# Altium footprint library CONAN-25_F.PcbLib: 1 footprints
Each footprint in its own frame and in the unit in brackets; x right, y up, seen from the top. Pads: shape width x height; smd on the part's side, far side on the other; paste and mask are expansions set on the pad; w line width, h text height; cw(c..) or ccw(c..) is an arc to the next point about the centre after c.
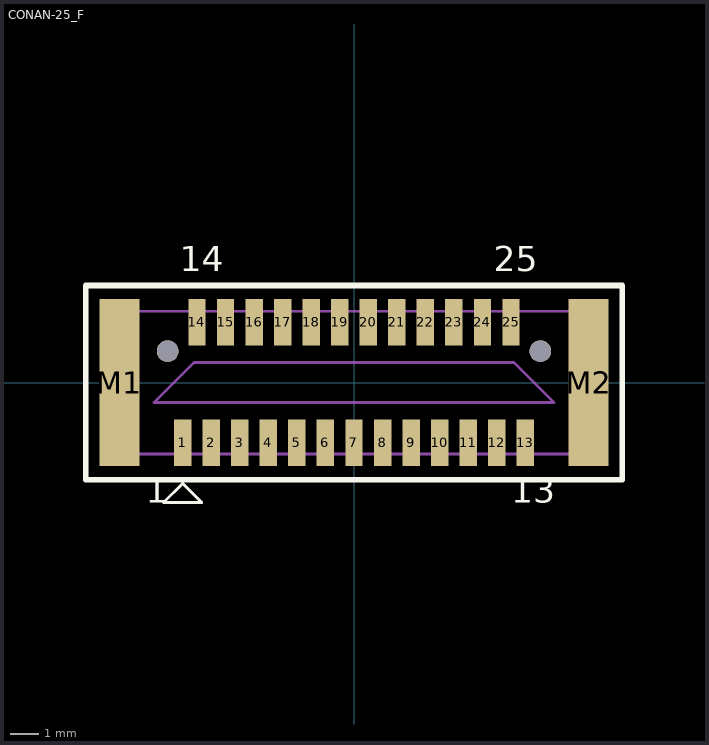
[diagram p0: the footprint, top view; thin cyan lines are the x and y axes]

## CONAN-25_F [mm]
height 3.2
pads (29):
  rect 0.61x1.63 smd: 1(-6,-2.11) 2(-5,-2.11) 3(-4,-2.11) 4(-3,-2.11) 5(-2,-2.11) 6(-1,-2.11) 7(0,-2.11) 8(1,-2.11) 9(2,-2.11) 10(3,-2.11) 11(4,-2.11) 12(5,-2.11) 13(6,-2.11) 14(-5.5,2.11) 15(-4.5,2.11) 16(-3.5,2.11) 17(-2.5,2.11) 18(-1.5,2.11) 19(-0.5,2.11) 20(0.5,2.11) 21(1.5,2.11) 22(2.5,2.11) 23(3.5,2.11) 24(4.5,2.11) 25(5.5,2.11)
  rect 1.4x5.85 smd: M1(-8.22,0) M2(8.22,0)
  round 0.76 hole 0.762 unplated: ""(-6.528,1.1) ""(6.528,1.1)
Top Overlay:
  lines w0.1: -6.67,-4.2 -5.33,-4.2 -6,-3.53 -6.67,-4.2
  lines w0.2: -9.4,-3.4 9.4,-3.4 9.4,3.4 -9.4,3.4 -9.4,-3.4
  text "13" at 5.5,-4.5 h1.5
  text "25" at 4.9,3.6 h1.5
  text "14" at -6.1,3.6 h1.5
  text "1" at -7.3,-4.5 h1.5
Mechanical 13:
  lines w0.1: -8.65,-2.5 8.65,-2.5 8.65,2.5 -8.65,2.5 -8.65,-2.5 ; -7,-0.7 7,-0.7 5.6,0.7 -5.6,0.7 -7,-0.7
Mechanical 15:
  lines w0.05: -9.4,-3.4 9.4,-3.4 9.4,3.4 -9.4,3.4 -9.4,-3.4
3D body: height 3.2, standoff 0, extent -8.7,-2.55 8.7,2.55